# Altium schematic symbol library Si2323DS.Schlib: 1 symbol
Pins are listed as number, name and electrical type; pins without a type are passive.

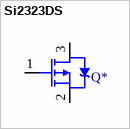
[diagram p0: symbol Si2323DS]

## Si2323DS
designator Q*
P channel 20V MosFET
footprint SO-G3/C2.5
pins: 1 G, 2 S, 3 D